# Altium footprint library MCP2221A-I_SL.PcbLib: 1 footprints
Each footprint in its own frame and in the unit in brackets; x right, y up, seen from the top. Pads: shape width x height; smd on the part's side, far side on the other; paste and mask are expansions set on the pad; w line width, h text height; cw(c..) or ccw(c..) is an arc to the next point about the centre after c.
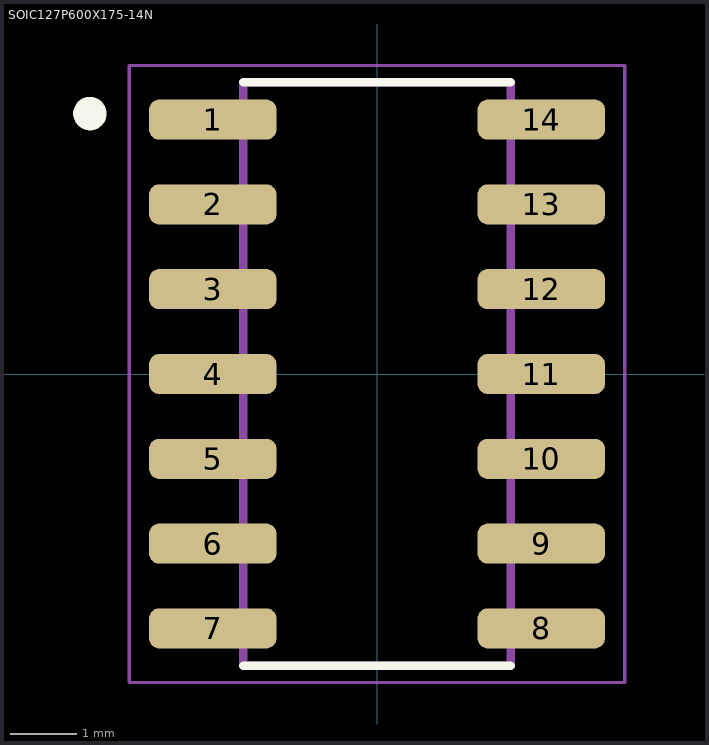
[diagram p0: the footprint, top view; thin cyan lines are the x and y axes]

## SOIC127P600X175-14N [mm]
pads (14):
  rrect50% 1.91x0.6 smd: 1(-2.46,3.81) 2(-2.46,2.54) 3(-2.46,1.27) 4(-2.46,0) 5(-2.46,-1.27) 6(-2.46,-2.54) 7(-2.46,-3.81) 8(2.46,-3.81) 9(2.46,-2.54) 10(2.46,-1.27) 11(2.46,0) 12(2.46,1.27) 13(2.46,2.54) 14(2.46,3.81)
Top Overlay:
  circle w0.3: c-4.3,3.9 r0.1
  lines w0.127: -2,-4.37 2,-4.37 ; -2,4.37 2,4.37
Mechanical 13:
  lines w0.127: -2,-4.37 -2,4.37 2,4.37 2,-4.37 -2,-4.37
Mechanical 15:
  lines w0.05: -3.71,-4.62 -3.71,4.62 3.71,4.62 3.71,-4.62 -3.71,-4.62